# EAGLE library part PIC24F16_SMD (library ElcPartsLibrary)
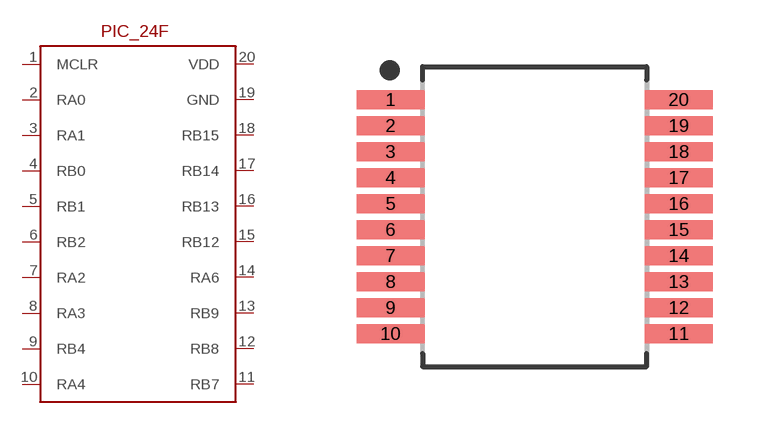
[diagram p3: symbol with the pads of SOP65P780X200-20N; footprint SOP65P780X200-20N]

Designator prefix -

## PIC24F16_SMDPIC24F16_SMD  [SOP65P780X200-20N]
1  MCLR
2  RA0
3  RA1
4  RB0
5  RB1
6  RB2
7  RA2
8  RA3
9  RB4
10  RA4
11  RB7
12  RB8
13  RB9
14  RA6
15  RB12
16  RB13
17  RB14
18  RB15
19  GND
20  VDD

## Footprint SOP65P780X200-20N (pad centres in mm)
20-SOP, 0.65 mm pitch, 7.80 mm span, 7.20 X 5.30 X 2.00 mm body 20-pin SOP package with 0.65 mm pitch, 7.80 mm span with body size 7.20 X 5.30 X 2.00 mm
smd 1.702 x 0.475: 1 -3.603,2.925; 2 -3.603,2.275; 3 -3.603,1.625; 4 -3.603,0.975; 5 -3.603,0.325; 6 -3.603,-0.325; 7 -3.603,-0.975; 8 -3.603,-1.625; 9 -3.603,-2.275; 10 -3.603,-2.925; 11 3.603,-2.925; 12 3.603,-2.275; 13 3.603,-1.625; 14 3.603,-0.975; 15 3.603,-0.325; 16 3.603,0.325; 17 3.603,0.975; 18 3.603,1.625; 19 3.603,2.275; 20 3.603,2.925